# EAGLE library part HD44780 (library common)
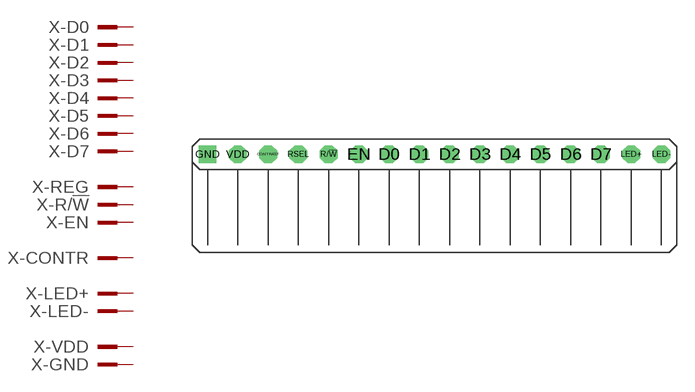
[diagram p37: symbol with the pads of HD44780; footprint HD44780]

Designator prefix X; gates -D0=PIN -D1=PIN -D2=PIN -D3=PIN -D4=PIN -D5=PIN -D6=PIN -D7=PIN -REG=PIN -R/!W=PIN -EN=PIN -CONTR=PIN -LED+=PIN -LED-=PIN -VDD=PIN -GND=PIN

## HD44780S  [HD44780]
CONTRAST  -CONTR:KL  pas
D0  -D0:KL  pas
D1  -D1:KL  pas
D2  -D2:KL  pas
D3  -D3:KL  pas
D4  -D4:KL  pas
D5  -D5:KL  pas
D6  -D6:KL  pas
D7  -D7:KL  pas
EN  -EN:KL  pas
GND  -GND:KL  pas
LED+  -LED+:KL  pas
LED-  -LED-:KL  pas
R/!W  -R/!W:KL  pas
RSEL  -REG:KL  pas
VDD  -VDD:KL  pas

## Footprint HD44780 (pad centres in mm)
drill 1 octagon: CONTRAST -5.08,0; D0 5.08,0; D1 7.62,0; D2 10.16,0; D3 12.7,0; D4 15.24,0; D5 17.78,0; D6 20.32,0; D7 22.86,0; EN 2.54,0; LED+ 25.4,0; LED- 27.94,0; R/!W 0,0; RSEL -2.54,0; VDD -7.62,0
drill 1 square: GND -10.16,0